# Altium schematic symbol library capacitor0603.SchLib: 1 symbol
Pins are listed as number, name and electrical type; pins without a type are passive.

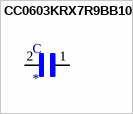
[diagram p0: symbol CC0603KRX7R9BB104]

## CC0603KRX7R9BB104
designator C
0.1ÂµF Â±10% 50V Ceramic Capacitor X7R 0603 _1608 Metric_; MP: CC0603KRX7R9BB104; MF: Yageo; Digi-Key_Purchase_URL: https://www.digikey.com/product-detail/en/yageo/CC0603KRX7R9BB104/311-1344-1-ND/2103128?utm_source=snapeda&utm_medium=aggregator&utm_campaign=symbol; Digi-Key_Part_Number: 311-1344-1-ND; Package: 0603 Yageo; Value: *; SnapEDA_Link: https://www.snapeda.com/parts/CC0603KRX7R9BB104/Yageo/view-part/78680/?ref=snap
footprint CAPC1608X90
pins: 1, 2